# Altium schematic symbol library Iot_Medicine.SchLib: 6 symbols
Pins are listed as number, name and electrical type; pins without a type are passive.

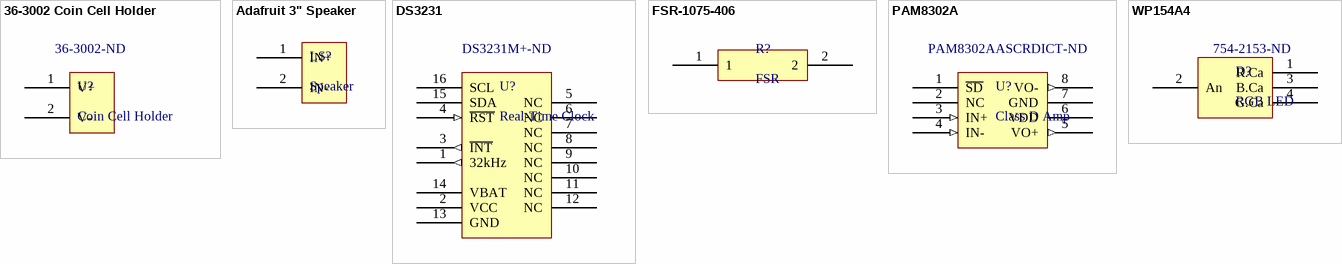
[diagram p0: symbols 36-3002 Coin Cell Holder to WP154A4]

## 36-3002 Coin Cell Holder
designator U?, comment Coin Cell Holder  Supplier Part Number 1: 36-3002-ND
Coin Cell Battery Clip for 20mm coin cell battery; Manufacturer: Keystone Electronics; Manufacturer Part Number: 3002; Body Material: Bronze; Number of Batteries: 1; Supplier 1: Digi-Key; RoHS: Yes; Stock 1: 11179; Pricing 1: 1 = 0.50000, 10 = 0.35300, 50 = 0.31340, 250 = 0.25072, 500 = 0.24280, 1000 = 0.21546, 2500 = 0.19980, 5000 = 0.19588 (USD); Mount: PCB,Surface Mount; Contact Material: Bronze; Material: Bronze; Packaging: Bulk; Package Quantity: 100; Termination: SMD/SMT; Number of Cells: 1; Diameter: 20mm; Height: 3.96mm; Lead Free: Lead Free; REACH SVHC: No SVHC; ComponentLink1URL: http://www.rapidonline.com/pdf/18-3570e.pdf?src-supplier=Rapid+Electronics; ComponentLink1Description: http://www.rapidonline.com/pdf/18-3570e.pdf?src-supplier=Rapid+Electronics; ComponentLink2URL: https://www.distrelec.biz/Web/Downloads/02/32/06950232.pdf?mime=application%2Fpdf&src-supplier=Distrelec; ComponentLink2Description: https://www.distrelec.biz/Web/Downloads/02/32/06950232.pdf?mime=application%2Fpdf&src-supplier=Distrelec; ComponentLink3URL: http://www.keyelco.com/product-pdf.cfm?p=779&src-supplier=Digi-Key; ComponentLink3Description: http://www.keyelco.com/product-pdf.cfm?p=779&src-supplier=Digi-Key; ComponentLink4URL: http://uk.rs-online.com/webdocs/002e/0900766b8002ef78.pdf?src-supplier=RSComponents; ComponentLink4Description: http://uk.rs-online.com/webdocs/002e/0900766b8002ef78.pdf?src-supplier=RSComponents; ComponentLink5URL: http://www.alliedelec.com/m/d/b9864426df636601b5f1c0914434fb14.pdf?src-supplier=Allied+Electronics; ComponentLink5Description: http://www.alliedelec.com/m/d/b9864426df636601b5f1c0914434fb14.pdf?src-supplier=Allied+Electronics; ComponentLink6URL: http://www.farnell.com/datasheets/1714045.pdf?src-supplier=Element14; ComponentLink6Description: http://www.farnell.com/datasheets/1714045.pdf?src-supplier=Element14
pins: 1 V+ (power), 2 V- (power)

## Adafruit 3" Speaker
designator LS?, comment Speaker
Speaker 3" Diameter 4 Ohm 3 Watt
pins: 1 IN+, 2 IN-

## DS3231
designator U?, comment Real-Time Clock  Supplier Part Number 1: DS3231M+-ND
Extremely Accurate I2C-Integrated RTC/TCXO/Crystal; Manufacturer: Maxim; Manufacturer Part Number: DS3231M+; Time Format: HH:MM:SS; Operating Supply Voltage: 3.3V; Max Supply Voltage: 5.5V; Min Supply Voltage: 2.3V; Interface: 2-Wire,I2C,Serial; Date Format: YY-MM-DD-dd; Supplier 1: Digi-Key; RoHS: Yes; Stock 1: 65; Pricing 1: 1 = 7.98000, 10 = 7.58100, 25 = 6.99000, 50 = 6.64060, 100 = 6.01000, 250 = 5.70952, 1000 = 4.27822 (USD); Mount: Surface Mount; Case/Package: SOIC; Number of Pins: 16; Min Operating Temperature: -40°C; Max Operating Temperature: 85°C; Logic Function: Clock; Package Quantity: 46; Packaging: Rail/Tube; Radiation Hardening: No; ComponentLink1URL: http://www.mouser.com/ds/2/256/DS3231M-35560.pdf?src-supplier=Mouser; ComponentLink1Description: http://www.mouser.com/ds/2/256/DS3231M-35560.pdf?src-supplier=Mouser; ComponentLink2URL: http://datasheets.maximintegrated.com/en/ds/DS3231M.pdf?src-supplier=Digi-Key; ComponentLink2Description: http://datasheets.maximintegrated.com/en/ds/DS3231M.pdf?src-supplier=Digi-Key; ComponentLink3URL: http://datasheet.iiic.cc/maxim/DS3231M_.pdf?src-supplier=IIIC; ComponentLink3Description: http://datasheet.iiic.cc/maxim/DS3231M_.pdf?src-supplier=IIIC
pins: 1 32kHz (out), 2 VCC (power), 3 ~{INT} (out), 4 ~{RST} (in), 5 NC, 6 NC, 7 NC, 8 NC, 9 NC, 10 NC, 11 NC, 12 NC, 13 GND (power), 14 VBAT (power), 15 SDA (oc), 16 SCL (oc)

## FSR-1075-406
designator R?, comment FSR
Force Sensing Resistor
pins: 1, 2

## PAM8302A
designator U?, comment Class D Amp  Supplier Part Number 1: PAM8302AASCRDICT-ND
2.5W Filterless Class-D Mono Audio Amplifier; Manufacturer: Diodes; Manufacturer Part Number: PAM8302AADCR; Voltage Gain: 24dB; Min Supply Voltage: 2V; Max Supply Voltage: 5.5V; Power Supply Rejection Ratio (PSRR): 50dB; Nominal Supply Current: 8mA; Number of Channels: 1; Operating Supply Current: 4mA; Supply Type: Single; RoHS: Yes; Mount: Surface Mount; Case/Package: SOP; Number of Pins: 8; Min Operating Temperature: -40°C; Max Operating Temperature: 85°C; Package Quantity: 2500; Packaging: Tape and Reel; Max Output Power: 2.5W; Radiation Hardening: No; ComponentLink1URL: http://www.diodes.com/datasheets/PAM8302A.pdf?src-supplier=Avnet; ComponentLink1Description: http://www.diodes.com/datasheets/PAM8302A.pdf?src-supplier=Avnet; ComponentLink2URL: https://www.diodes.com/assets/Datasheets/PAM8302A.pdf?src-supplier=Digi-Key; ComponentLink2Description: https://www.diodes.com/assets/Datasheets/PAM8302A.pdf?src-supplier=Digi-Key; Supplier 1: Digi-Key; Stock 1: 1058; Pricing 1: 1 = 0.63000, 10 = 0.54100, 100 = 0.40380, 500 = 0.31724, 1000 = 0.24514 (USD); Weight: 0.004938oz; Output Power: 2.5W; Lead Free: Lead Free; ComponentLink3URL: http://www.mouser.com/ds/2/115/PAM8302A-247351.pdf?src-supplier=Mouser; ComponentLink3Description: http://www.mouser.com/ds/2/115/PAM8302A-247351.pdf?src-supplier=Mouser
pins: 1 ~{SD}, 2 NC, 3 IN+ (in), 4 IN- (in), 5 VO+ (out), 6 VDD (power), 7 GND (power), 8 VO- (out)

## WP154A4
designator D?, comment RGB LED  Supplier Part Number 1: 754-2153-ND
RGB LED (THT); Manufacturer: Kingbright; Manufacturer Part Number: WP154A4SEJ3VBDZGC/CA; Supplier 1: Digi-Key; Stock 1: 3880; Pricing 1: 1 = 2.05000, 10 = 1.81400, 25 = 1.34560, 100 = 1.17000, 250 = 1.05300, 500 = 0.93602, 1000 = 0.80439, 2500 = 0.76051, 5000 = 0.73126 (USD)
pins: 1 R.Ca, 2 An, 3 B.Ca, 4 G.Ca